# EAGLE library part 502585-0670 (library molex)
CONN RCPT R/A 6POS 1.5MM PCB tested: NO
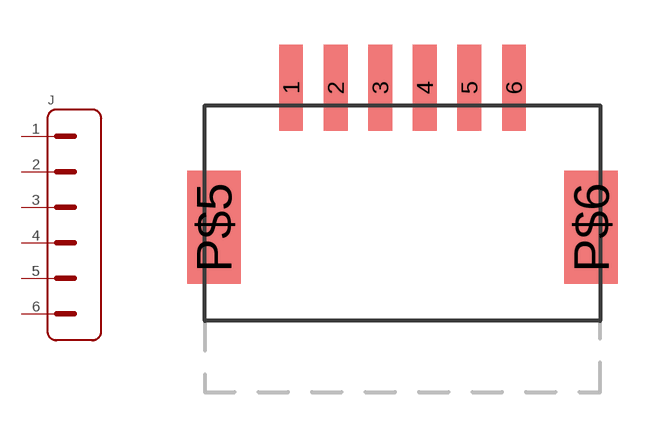
[diagram p5: symbol with the pads of 502585-0670; footprint 502585-0670]

Designator prefix J

## 502585-0670  [502585-0670]
1  1
2  2
3  3
4  4
5  5
6  6

## Footprint 502585-0670 (pad centres in mm)
smd 0.8 x 2.9: 1 -3.75,4.7; 2 -2.25,4.7; 3 -0.75,4.7; 4 0.75,4.7; 5 2.25,4.7; 6 3.75,4.7
smd 1.8 x 3.8: P$5 -6.35,0; P$6 6.35,0